# Altium footprint library ZYF_Connector.PcbLib: 43 footprints (part 3 of 3)
Each footprint in its own frame and in the unit in brackets; x right, y up, seen from the top. Pads: shape width x height; smd on the part's side, far side on the other; paste and mask are expansions set on the pad; w line width, h text height; cw(c..) or ccw(c..) is an arc to the next point about the centre after c.
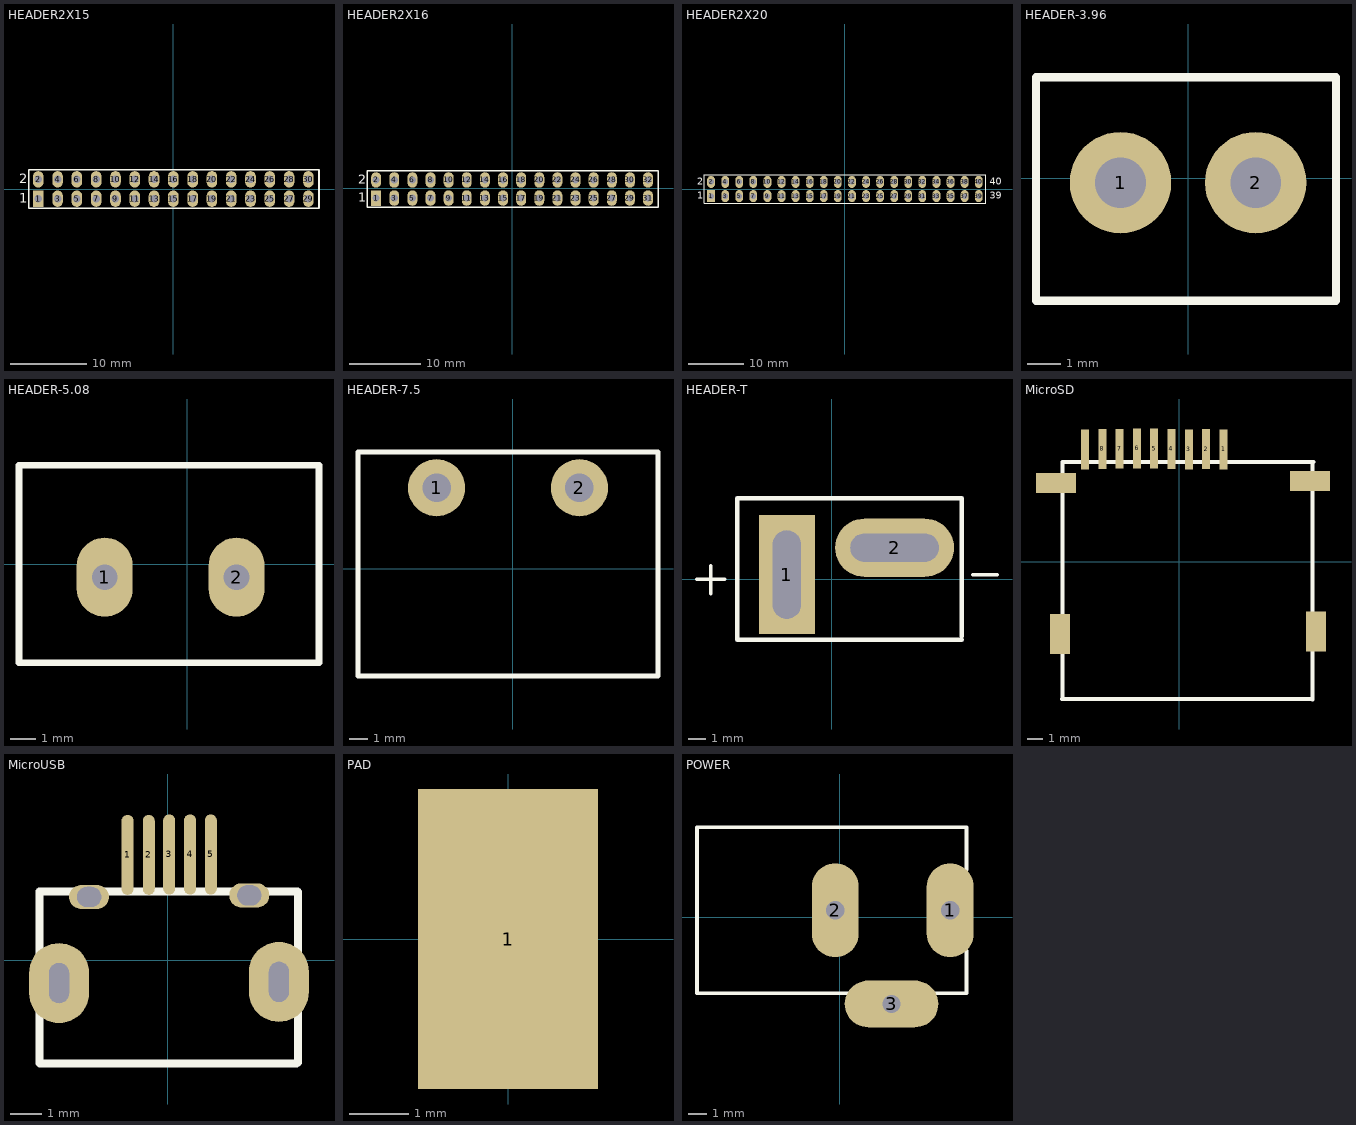
[diagram p2: the footprints below, top view; thin cyan lines are the x and y axes]

## HEADER2X15 [mil]
pads (30):
  rect 55x85 hole 39: 1(-700,-50)
  oval 55x85 hole 39: 2(-700,50) 3(-600,-50) 4(-600,50) 5(-500,-50) 6(-500,50) 7(-400,-50) 8(-400,50) 9(-300,-50) 10(-300,50) 11(-200,-50) 12(-200,50) 13(-100,-50) 14(-100,50) 15(0,-50) 16(0,50) 17(100,-50) 18(100,50) 19(200,-50) 20(200,50) 21(300,-50) 22(300,50) 23(400,-50) 24(400,50) 25(500,-50) 26(500,50) 27(600,-50) 28(600,50) 29(700,-50) 30(700,50)
Top Overlay:
  lines w7.87: -750,-100 -750,100 755,100 755,-100 -750,-100
  text "2" at -800,30 h50
  text "1" at -800,-70 h50
3D body: height 322.83, standoff -118.11, extent -746.05,0.96 -246.06,99.32
3D body: height 322.83, standoff -118.11, extent -746.05,-97.4 -246.06,0.96
3D body: height 322.83, standoff -118.11, extent -246.05,0.96 253.94,99.32
3D body: height 322.83, standoff -118.11, extent -246.05,-97.4 253.94,0.96
3D body: height 322.83, standoff -118.11, extent 253.95,0.96 753.94,99.32
3D body: height 322.83, standoff -118.11, extent 253.95,-97.4 753.94,0.96

## HEADER2X16 [mil]
pads (32):
  rect 55x85 hole 39: 1(-750,-55)
  oval 55x85 hole 39: 2(-750,45) 3(-650,-55) 4(-650,45) 5(-550,-55) 6(-550,45) 7(-450,-55) 8(-450,45) 9(-350,-55) 10(-350,45) 11(-250,-55) 12(-250,45) 13(-150,-55) 14(-150,45) 15(-50,-55) 16(-50,45) 17(50,-55) 18(50,45) 19(150,-55) 20(150,45) 21(250,-55) 22(250,45) 23(350,-55) 24(350,45) 25(450,-55) 26(450,45) 27(550,-55) 28(550,45) 29(650,-55) 30(650,45) 31(750,-55) 32(750,45)
Top Overlay:
  lines w7.87: -800,-105 -800,95 805,95 805,-105 -800,-105
  text "2" at -850,25 h50
  text "1" at -850,-75 h50
3D body: height 322.83, standoff -118.11, extent 405,-5.86 805,92.5
3D body: height 322.83, standoff -118.11, extent 405,-104.23 805,-5.86
3D body: height 322.83, standoff -118.11, extent 5,-5.86 405,92.5
3D body: height 322.83, standoff -118.11, extent 5,-104.23 405,-5.86
3D body: height 322.83, standoff -118.11, extent -395,-5.86 5,92.5
3D body: height 322.83, standoff -118.11, extent -395,-104.23 5,-5.86
3D body: height 322.83, standoff -118.11, extent -795,-5.86 -395,92.5
3D body: height 322.83, standoff -118.11, extent -795,-104.23 -395,-5.86

## HEADER2X20 [mil]
pads (40):
  rect 55x85 hole 39: 1(-950,-50)
  oval 55x85 hole 39: 2(-950,50) 3(-850,-50) 4(-850,50) 5(-750,-50) 6(-750,50) 7(-650,-50) 8(-650,50) 9(-550,-50) 10(-550,50) 11(-450,-50) 12(-450,50) 13(-350,-50) 14(-350,50) 15(-250,-50) 16(-250,50) 17(-150,-50) 18(-150,50) 19(-50,-50) 20(-50,50) 21(50,-50) 22(50,50) 23(150,-50) 24(150,50) 25(250,-50) 26(250,50) 27(350,-50) 28(350,50) 29(450,-50) 30(450,50) 31(550,-50) 32(550,50) 33(650,-50) 34(650,50) 35(750,-50) 36(750,50) 37(850,-50) 38(850,50) 39(950,-50) 40(950,50)
Top Overlay:
  lines w7.87: -1000,-100 -1000,100 1000,100 1000,-100 -1000,-100
  text "39" at 1030,-70 h50
  text "40" at 1030,30 h50
  text "2" at -1050,30 h50
  text "1" at -1050,-70 h50
3D body: height 322.83, standoff -118.11, extent 505,-101.73 1005,-3.36
3D body: height 322.83, standoff -118.11, extent 505,-3.36 1005,95
3D body: height 322.83, standoff -118.11, extent -995,-101.73 -695,-3.36
3D body: height 322.83, standoff -118.11, extent -995,-3.36 -695,95
3D body: height 322.83, standoff -118.11, extent -695,-101.73 -395,-3.36
3D body: height 322.83, standoff -118.11, extent -695,-3.36 -395,95
3D body: height 322.83, standoff -118.11, extent -395,-101.73 -95,-3.36
3D body: height 322.83, standoff -118.11, extent -395,-3.36 -95,95
3D body: height 322.83, standoff -118.11, extent -95,-101.73 205,-3.36
3D body: height 322.83, standoff -118.11, extent -95,-3.36 205,95
3D body: height 322.83, standoff -118.11, extent 205,-101.73 505,-3.36
3D body: height 322.83, standoff -118.11, extent 205,-3.36 505,95

## HEADER-3.96 [mil]
pads (2):
  round 120 hole 60: 1(-80,-5) 2(80,-5)
Top Overlay:
  lines w10: -180,-145 -180,120 175,120 175,-145 -180,-145

## HEADER-5.08 [mil]
pads (2):
  oval 85x120 hole 39: 1(-125,-20) 2(75,-20)
Top Overlay:
  lines w10: -255,-150 200,-150 200,150 -255,150 -255,-150
3D body: height 391.73, standoff -133.86, extent -250,-147.64 197.24,147.64

## HEADER-7.5 [mil]
pads (2):
  round 120 hole 60: 1(-160,170) 2(140,170)
Top Overlay:
  lines w10: -325,-225 -325,245 305,245 305,-225 -325,-225

## HEADER-T [mil]
pads (2):
  rect 125x265 hole 62.99 slot 196.85 at 90 deg: 1(-100,10)
  oval 265x130 hole 62.99 slot 196.85 at 0 deg: 2(140,70)
Top Overlay:
  lines w7.87: -300,0 -238,0 ; -269,-32 -269,30 ; 314,10 368,10
  lines w10: 290,-135 -55,-135 -210,-135 -210,180 290,180 290,-127
3D body: height 555.12, standoff -192.91, extent -211.22,-112.4 261.22,175

## MicroSD [mil]
pads (13):
  rect 20x100 smd: 1(111.5,282) 2(68,282.5) 3(25,282) 4(-19,283) 5(-62.5,284) 6(-105,284.5) 7(-149,283.5) 8(-192,283) ""(-235.5,282)
  rect 100x50 smd: ""(-308.5,197) ""(328.5,202)
  rect 50x100 smd: ""(-298,-180.5) ""(343.5,-175)
Top Overlay:
  lines w10: -293.5,-344.5 -291.5,-342.5 -291.5,250.5 336.5,250.5 334,248 334,-345.5 333,-344.5 -293.5,-344.5
3D body: height 72.83, standoff -23.62, extent -291.96,-349.39 337.96,251

## MicroUSB [mil]
pads (9):
  oval 15x100 smd: 1(-50,131.5) 2(-23.5,131.5) 3(2,132) 4(28,132) 5(54,132)
  oval 75x100 hole 25 slot 50 at 90 deg: ""(-135.5,-28.5) ""(139,-27)
  oval 50x30 hole 25 slot 30 at 0 deg: ""(-98,79) ""(102,81)
Top Overlay:
  lines w10: -160,-128.5 -159.5,-129 161,-129 162.5,-127.5 162.5,85 162,85.5 -160,85.5 -160,-128.5
3D body: height 108.07, standoff -21.85, extent -159.91,-128.44 162.92,85.34

## PAD [mil]
pads (1):
  rect 120x200 smd: 1(0,0)

## POWER [mil]
pads (3):
  oval 100x200 hole 39: 1(235,15) 2(-10,15)
  oval 200x100 hole 39: 3(110,-185)
Top Overlay:
  lines w7.87: 21.77,-162.17 -305,-162.17 -305,192.17 269.8,192.17 269.8,101.61 ; 195,-162.17 269.8,-162.17 269.8,-71.61